# EAGLE library part SN74HC4066 (library SPEC_v48)
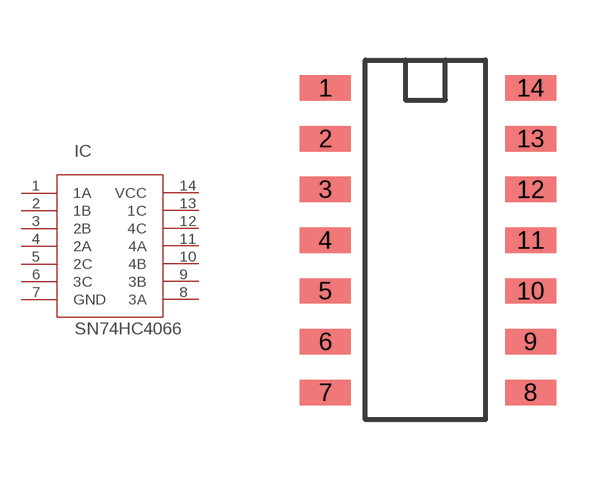
[diagram p1: symbol with the pads of SN74HC4066DR; footprint SN74HC4066DR]

Designator prefix IC

## SN74HC4066  [SN74HC4066DR]
1  1A
2  1B
3  2B
4  2A
5  2C
6  3C
7  GND
8  3A
9  3B
10  4B
11  4A
12  4C
13  1C
14  VCC

## Footprint SN74HC4066DR (pad centres in mm)
smd 1.27 x 0.635: 1 0,0; 2 0,-1.27; 3 0,-2.54; 4 0,-3.81; 5 0,-5.08; 6 0,-6.35; 7 0,-7.62; 8 5.13,-7.62; 9 5.13,-6.35; 10 5.13,-5.08; 11 5.13,-3.81; 12 5.13,-2.54; 13 5.13,-1.27; 14 5.13,0